# EAGLE library part TPS5430 (library power)
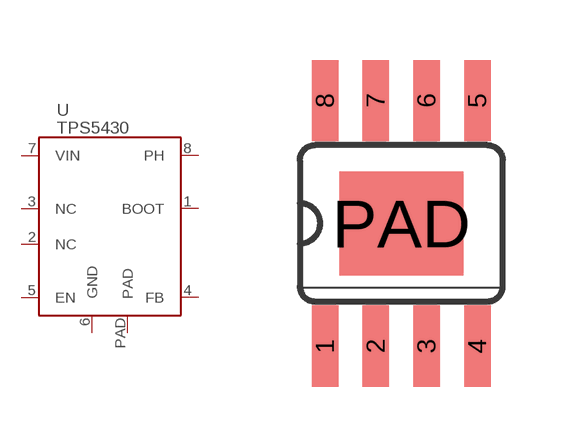
[diagram p1: symbol with the pads of SOIC08_PAD; footprint SOIC08_PAD]

Designator prefix -

## TPS5430_SOIC08  [SOIC08_PAD]
1  BOOT
2  NC  pas
3  NC  pas
4  FB
5  EN
6  GND  pwr
7  VIN  pwr
8  PH  pwr
PAD  PAD

## Footprint SOIC08_PAD (pad centres in mm)
smd 0.66 x 2.032: 1 -1.905,-3.073; 2 -0.635,-3.073; 3 0.635,-3.073; 4 1.905,-3.073; 5 1.905,3.073; 6 0.635,3.073; 7 -0.635,3.073; 8 -1.905,3.073
smd 3.1 x 2.6: PAD 0,0